# Altium footprint library Fixed Inductors.PcbLib: 2 footprints
Each footprint in its own frame and in the unit in brackets; x right, y up, seen from the top. Pads: shape width x height; smd on the part's side, far side on the other; paste and mask are expansions set on the pad; w line width, h text height; cw(c..) or ccw(c..) is an arc to the next point about the centre after c.
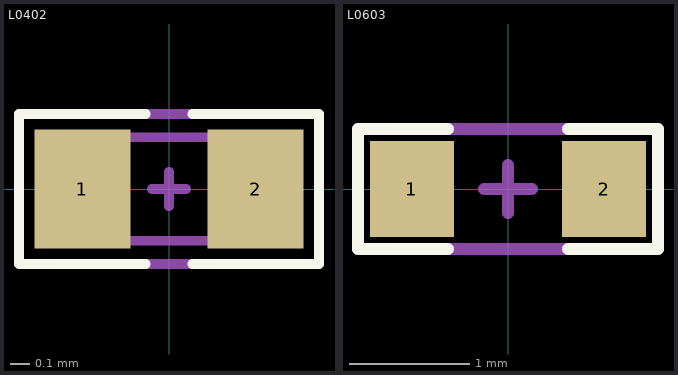
[diagram p0: the footprints below, top view; thin cyan lines are the x and y axes]

## L0402 [mm] "Inducatır 0402 Package"
pads (2):
  rect 0.5x0.62 smd mask+0.05: 1(-0.45,0) 2(0.45,0)
Top Overlay:
  lines w0.05: -0.12,-0.39 -0.78,-0.39 -0.78,0.39 -0.12,0.39 ; 0.12,-0.39 0.78,-0.39 0.78,0.39 0.12,0.39
Top 3D Body:
  lines w0.05: -0.51,-0.27 -0.51,0.27 0.51,0.27 0.51,-0.27 -0.51,-0.27
Top Component Center:
  lines w0.05: -0.09,0 0.09,0 ; 0,-0.09 0,0.09 ; -0.78,-0.39 0.78,-0.39 0.78,0.39 -0.78,0.39 -0.78,-0.39
Top Designator:
  lines w0.05: -0.78,-0.39 0.78,-0.39 0.78,0.39 -0.78,0.39 -0.78,-0.39
  text ".Designator" at -0.562,-0.24 h0.5
3D body "LQW15CAR50J00D.STEP": height 0.66, standoff 0, extent -0.51,-0.275 0.51,0.275

## L0603 [mm] "Inducator 0603 Package"
pads (2):
  rect 0.7x0.8 smd mask+0.05: 1(-0.8,0) 2(0.8,0)
Top Overlay:
  lines w0.1: -0.5,-0.5 -1.25,-0.5 ; -0.5,0.5 -1.25,0.5 -1.25,-0.5 ; 0.5,-0.5 1.25,-0.5 1.25,0.5 ; 0.5,0.5 1.25,0.5 ; -1.25,-0.5 -1.25,-0.5 ; -1.25,-0.5 -1.25,-0.5 ; 1.25,0.5 1.25,0.5 ; 1.25,0.5 1.25,0.5
Top Component Center:
  lines w0.1: -0.2,0 0.2,0 ; 0,-0.2 0,0.2 ; -1.25,-0.5 -1.25,0.5 1.25,0.5 1.25,-0.5 -1.25,-0.5
Top Designator:
  lines w0.1: -1.25,-0.5 -1.25,0.5 1.25,0.5 1.25,-0.5 -1.25,-0.5
  text ".Designator" at -0.916,-0.241 h0.5
3D body "LQW18CNR16J00D.STEP": height 0.95, standoff 0, extent -0.8,-0.4 0.8,0.4